# Altium footprint library EDU_High-Speed-Design.PcbLib: 29 footprints (part 2 of 2)
Each footprint in its own frame and in the unit in brackets; x right, y up, seen from the top. Pads: shape width x height; smd on the part's side, far side on the other; paste and mask are expansions set on the pad; w line width, h text height; cw(c..) or ccw(c..) is an arc to the next point about the centre after c.
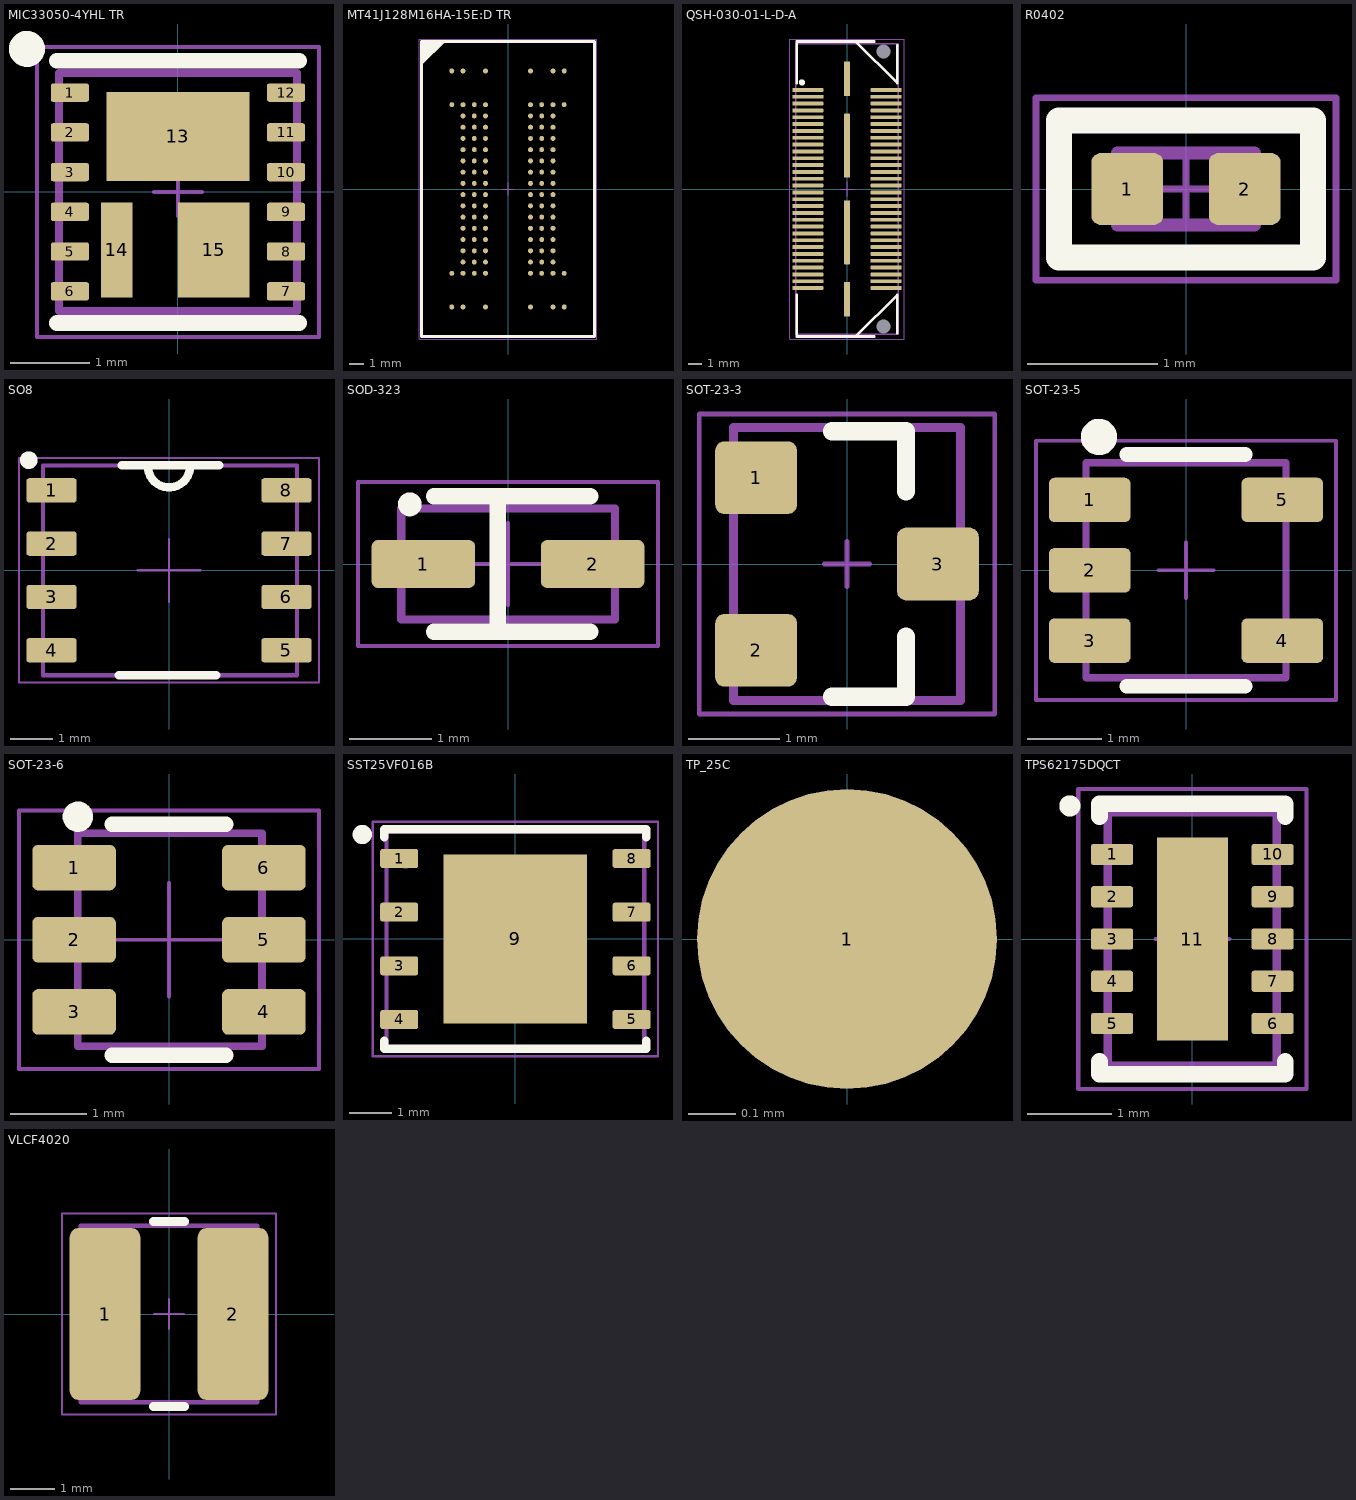
[diagram p1: the footprints below, top view; thin cyan lines are the x and y axes]

## MIC33050-4YHL TR [mm] "12-VFDFN Exposed Pad, 3.00mm L x 3.00mm W"
height 0.85
pads (15):
  rrect25% 0.48x0.23 smd: 1(-1.36,1.25) 2(-1.36,0.75) 3(-1.36,0.25) 4(-1.36,-0.25) 5(-1.36,-0.75) 6(-1.36,-1.25) 7(1.36,-1.25) 8(1.36,-0.75) 9(1.36,-0.25) 10(1.36,0.25) 11(1.36,0.75) 12(1.36,1.25)
  rect 1.8x1.125 smd: 13(0,0.699)
  rect 0.4x1.19 smd: 14(-0.77,-0.73)
  rect 0.9x1.19 smd: 15(0.45,-0.73)
Top Overlay:
  circle w0.254: c-1.9,1.8 r0.1
  lines w0.2: -1.524,-1.651 1.524,-1.651 ; -1.524,1.651 1.524,1.651
Top Solder:
  region: 1.6,-0.6 0.8,-0.6 0.8,-1.4 1.6,-1.4 1.6,-1.1 1.1,-1.1 1.1,-0.9 1.6,-0.9
Mechanical 13:
  lines w0.1: -1.499,-1.499 -1.499,1.499 1.499,1.499 1.499,-1.499 -1.499,-1.499
Mechanical 15:
  lines w0.05: -0.3,0 0.3,0 ; 0,-0.3 0,0.3 ; -1.775,-1.825 1.775,-1.825 1.775,1.825 -1.775,1.825 -1.775,-1.825
3D body "MLF-12_YML_MCH.step": height 0.89, standoff 0, extent -1.499,-1.499 1.499,1.499

## MT41J128M16HA-15E:D TR [mm] "96-FBGA, 9.00mm L x 14.00mm W"
height 1.2
pads (112):
  round 0.35 smd mask+0.05: A1(-3.2,6) A2(-2.4,6) A3(-1.6,6) A7(1.6,6) A8(2.4,6) A9(3.2,6) B1(-3.2,5.2) B2(-2.4,5.2) B3(-1.6,5.2) B7(1.6,5.2) B8(2.4,5.2) B9(3.2,5.2) C1(-3.2,4.4) C2(-2.4,4.4) C3(-1.6,4.4) C7(1.6,4.4) C8(2.4,4.4) C9(3.2,4.4) D1(-3.2,3.6) D2(-2.4,3.6) D3(-1.6,3.6) D7(1.6,3.6) D8(2.4,3.6) D9(3.2,3.6) E1(-3.2,2.8) E2(-2.4,2.8) E3(-1.6,2.8) E7(1.6,2.8) E8(2.4,2.8) E9(3.2,2.8) F1(-3.2,2) F2(-2.4,2) F3(-1.6,2) F7(1.6,2) F8(2.4,2) F9(3.2,2) G1(-3.2,1.2) G2(-2.4,1.2) G3(-1.6,1.2) G7(1.6,1.2) G8(2.4,1.2) G9(3.2,1.2) H1(-3.2,0.4) H2(-2.4,0.4) H3(-1.6,0.4) H7(1.6,0.4) H8(2.4,0.4) H9(3.2,0.4) J1(-3.2,-0.4) J2(-2.4,-0.4) J3(-1.6,-0.4) J7(1.6,-0.4) J8(2.4,-0.4) J9(3.2,-0.4) K1(-3.2,-1.2) K2(-2.4,-1.2) K3(-1.6,-1.2) K7(1.6,-1.2) K8(2.4,-1.2) K9(3.2,-1.2) L1(-3.2,-2) L2(-2.4,-2) L3(-1.6,-2) L7(1.6,-2) L8(2.4,-2) L9(3.2,-2) M1(-3.2,-2.8) M2(-2.4,-2.8) M3(-1.6,-2.8) M7(1.6,-2.8) M8(2.4,-2.8) M9(3.2,-2.8) MECH01(-4,8.4) MECH02(-3.2,8.4) MECH03(-1.6,8.4) MECH04(1.6,8.4) MECH05(3.2,8.4) MECH06(4,8.4) MECH07(-4,6) MECH08(4,6) MECH09(-4,-6) MECH10(4,-6) MECH11(-4,-8.4) MECH12(-3.2,-8.4) MECH13(-1.6,-8.4) MECH14(1.6,-8.4) MECH15(3.2,-8.4) MECH16(4,-8.4) N1(-3.2,-3.6) N2(-2.4,-3.6) N3(-1.6,-3.6) N7(1.6,-3.6) N8(2.4,-3.6) N9(3.2,-3.6) P1(-3.2,-4.4) P2(-2.4,-4.4) P3(-1.6,-4.4) P7(1.6,-4.4) P8(2.4,-4.4) P9(3.2,-4.4) R1(-3.2,-5.2) R2(-2.4,-5.2) R3(-1.6,-5.2) R7(1.6,-5.2) R8(2.4,-5.2) R9(3.2,-5.2) T1(-3.2,-6) T2(-2.4,-6) T3(-1.6,-6) T7(1.6,-6) T8(2.4,-6) T9(3.2,-6)
Top Overlay:
  region: -6.15,10.5 -4.6,10.5 -4.6,10.472 -6.15,8.922
  lines w0.2: -6.15,8.922 -4.572,10.5 ; -6.15,-10.5 6.15,-10.5 6.15,10.5 -6.15,10.5 -6.15,-10.5
Mechanical 13:
  lines w0.1: -6.159,-10.541 -6.159,10.541 6.159,10.541 6.159,-10.541 -6.159,-10.541
Mechanical 15:
  lines w0.05: -0.45,0 0.45,0 ; 0,-0.45 0,0.45 ; -6.325,-10.675 6.325,-10.675 6.325,10.675 -6.325,10.675 -6.325,-10.675
3D body: height 1.2, standoff 0, extent -6.159,-10.541 6.159,10.541

## QSH-030-01-L-D-A [mm] "21.31mm L x 7.49mm W"
height 3.25
pads (66):
  rrect25% 2.27x0.28 smd: 1(-2.87,7.25) 2(2.87,7.25) 3(-2.87,6.75) 4(2.87,6.75) 5(-2.87,6.25) 6(2.87,6.25) 7(-2.87,5.75) 8(2.87,5.75) 9(-2.87,5.25) 10(2.87,5.25) 11(-2.87,4.75) 12(2.87,4.75) 13(-2.87,4.25) 14(2.87,4.25) 15(-2.87,3.75) 16(2.87,3.75) 17(-2.87,3.25) 18(2.87,3.25) 19(-2.87,2.75) 20(2.87,2.75) 21(-2.87,2.25) 22(2.87,2.25) 23(-2.87,1.75) 24(2.87,1.75) 25(-2.87,1.25) 26(2.87,1.25) 27(-2.87,0.75) 28(2.87,0.75) 29(-2.87,0.25) 30(2.87,0.25) 31(-2.87,-0.25) 32(2.87,-0.25) 33(-2.87,-0.75) 34(2.87,-0.75) 35(-2.87,-1.25) 36(2.87,-1.25) 37(-2.87,-1.75) 38(2.87,-1.75) 39(-2.87,-2.25) 40(2.87,-2.25) 41(-2.87,-2.75) 42(2.87,-2.75) 43(-2.87,-3.25) 44(2.87,-3.25) 45(-2.87,-3.75) 46(2.87,-3.75) 47(-2.87,-4.25) 48(2.87,-4.25) 49(-2.87,-4.75) 50(2.87,-4.75) 51(-2.87,-5.25) 52(2.87,-5.25) 53(-2.87,-5.75) 54(2.87,-5.75) 55(-2.87,-6.25) 56(2.87,-6.25) 57(-2.87,-6.75) 58(2.87,-6.75) 59(-2.87,-7.25) 60(2.87,-7.25)
  rrect25% 0.43x2.54 smd: 61(0,8.065) 64(0,-8.065)
  rrect25% 0.43x4.7 smd: 62(0,3.175) 63(0,-3.175)
  round 0 hole 1.05 unplated: 65(2.67,10.065) 66(2.67,-10.065)
Top Overlay:
  circle w0.254: c-3.3,7.8 r0.1
  lines w0.2: -3.683,-7.747 -3.683,-10.8 2,-10.8 ; -3.683,7.747 -3.683,10.8 2,10.8 ; 0,-10.8 0.63,-10.8 3.683,-7.747 3.683,-10.541 ; 0,10.8 0.63,10.8 3.683,7.747 3.683,10.5
Mechanical 13:
  lines w0.1: -3.746,-10.635 -3.746,10.637 3.746,10.637 3.746,-10.635 -3.746,-10.635
Mechanical 15:
  lines w0.05: -0.513,0 0.512,0 ; 0,-0.513 0,0.513 ; -4.175,-10.975 -4.175,10.975 4.175,10.975 4.175,-10.975 -4.175,-10.975
3D body "QSH-030-01-X-D-A.step": height 3.42, standoff -0.58, extent -3.746,-10.635 3.746,10.637

## R0402 [mm] "Chip Resistor, 2-Leads, Body 1.00x0.50mm, IPC Medium Density"
height 0.4
pads (2):
  rrect25% 0.55x0.55 smd: 1(-0.45,0) 2(0.45,0)
Top Overlay:
  lines w0.2: -0.975,-0.525 -0.975,0.525 0.975,0.525 0.975,-0.525 -0.975,-0.525
Mechanical 13:
  lines w0.1: -0.525,-0.275 -0.525,0.275 0.525,0.275 0.525,-0.275 -0.525,-0.275
Mechanical 15:
  lines w0.05: -0.275,0 0.275,0 ; 0,-0.275 0,0.275 ; -1.15,-0.7 -1.15,0.7 1.15,0.7 1.15,-0.7 -1.15,-0.7
3D body "User Library-RES_0402.step": height 0.4, standoff 0, extent -0.525,-0.275 0.525,0.275

## SO8 [mm] "5.00mm L x 6.20mm W"
height 1.75
pads (8):
  rrect25% 1.2x0.58 smd: 1(-2.8,1.905) 2(-2.8,0.635) 3(-2.8,-0.635) 4(-2.8,-1.905) 5(2.8,-1.905) 6(2.8,-0.635) 7(2.8,0.635) 8(2.8,1.905)
Top Overlay:
  circle w0.22: c-3.342,2.625 r0.1
  lines w0.2: -1.2,-2.5 1.125,-2.5 ; -1.125,2.5 1.2,2.5 ; -0.5,2.475 ccw(c0,2.475) 0.5,2.475
Mechanical 13:
  lines w0.1: -3,-2.5 -3,2.5 3.05,2.5 3.05,-2.5 -3,-2.5
Mechanical 15:
  lines w0.05: -0.75,0 0.75,0 ; 0,-0.75 0,0.75 ; -3.575,-2.675 3.575,-2.675 3.575,2.675 -3.575,2.675 -3.575,-2.675
3D body "SOIC-8.STEP": height 1.7, standoff 0, extent -3,-2.54 3,2.54

## SOD-323 [mm] "SC-76, SOD-323, 2.70mm L x 1.35mm W"
height 1.15
pads (2):
  rrect25% 1.26x0.58 smd: 1(-1.03,0) 2(1.03,0)
Top Overlay:
  lines w0.15: -1.125,0.725 cw(c-1.195,0.725) -1.125,0.732
  lines w0.2: -0.9,-0.825 1,-0.825 ; -0.9,0.825 1,0.825 ; -0.125,-0.8 -0.125,0.825
Mechanical 13:
  lines w0.1: -1.3,-0.675 -1.3,0.675 1.3,0.675 1.3,-0.675 -1.3,-0.675
Mechanical 15:
  lines w0.05: -0.5,0 0.5,0 ; 0,-0.5 0,0.5 ; -1.825,-1 -1.825,1 1.825,1 1.825,-1 -1.825,-1
3D body "User Library-SOD323-1.step": height 1.1, standoff 0, extent -1.3,-0.675 1.3,0.675

## SOT-23-3 [mm] "SOT23, 3-Leads, Body 2.92x1.3mm, Pitch 0.95mm"
height 1.11
pads (3):
  rrect25% 0.9x0.8 smd: 1(-1,0.95) 2(-1,-0.95) 3(1,0)
Top Overlay:
  lines w0.2: -0.165,-1.46 0.65,-1.46 0.65,-0.8 ; -0.165,1.46 0.65,1.46 0.65,0.8
Mechanical 13:
  lines w0.1: -1.25,-1.5 -1.25,1.5 1.25,1.5 1.25,-1.5 -1.25,-1.5
Mechanical 15:
  lines w0.05: -0.25,0 0.25,0 ; 0,-0.25 0,0.25 ; -1.625,-1.65 -1.625,1.65 1.625,1.65 1.625,-1.65 -1.625,-1.65
3D body "User Library-SOT-23-3.STEP": height 0.99, standoff -0.02, extent -1.25,-1.5 1.25,1.5

## SOT-23-5 [mm] "DBV package, 5-Leads, 2.8mm x 2.9mm"
height 1.1
pads (5):
  rrect25% 1.1x0.6 smd: 1(-1.3,0.95) 2(-1.3,0) 3(-1.3,-0.95) 4(1.3,-0.95) 5(1.3,0.95)
Top Overlay:
  circle w0.25: c-1.175,1.8 r0.12
  lines w0.2: -0.8,-1.565 0.8,-1.565 ; -0.8,1.565 0.8,1.565
Mechanical 13:
  lines w0.1: -1.35,-1.45 1.35,-1.45 1.35,1.45 -1.35,1.45 -1.35,-1.45
Mechanical 15:
  lines w0.05: -0.375,0 0.375,0 ; 0,-0.375 0,0.375 ; -2.025,-1.75 2.025,-1.75 2.025,1.75 -2.025,1.75 -2.025,-1.75
3D body "step_temp.STEP": height 1.25, standoff 0, extent -1.35,-1.45 1.35,1.45

## SOT-23-6 [mm] "2.9mm L x 2.8mm W"
height 1.45
pads (6):
  rrect25% 1.1x0.6 smd: 1(-1.25,0.95) 2(-1.25,0) 3(-1.25,-0.95) 4(1.25,-0.95) 5(1.25,0) 6(1.25,0.95)
Top Overlay:
  circle w0.2: c-1.2,1.62 r0.1
  lines w0.2: -0.75,-1.52 0.75,-1.52 ; -0.75,1.52 0.75,1.52
Mechanical 13:
  lines w0.1: -1.2,-1.4 1.225,-1.4 1.225,1.4 -1.2,1.4 -1.2,-1.4
Mechanical 15:
  lines w0.05: -0.75,0 0.75,0 ; 0,-0.75 0,0.75 ; -1.975,-1.7 1.975,-1.7 1.975,1.7 -1.975,1.7 -1.975,-1.7
3D body "SW3dPS-SOT-23-6.STEP": height 1.09, standoff 0, extent -1.201,-1.397 1.225,1.397

## SST25VF016B [mm] "8-WSON, 6.00mm L x 5.00mm W"
height 0.8
pads (9):
  rrect25% 0.9x0.45 smd: 1(-2.75,1.905) 2(-2.75,0.635) 3(-2.75,-0.635) 4(-2.75,-1.905) 5(2.75,-1.905) 6(2.75,-0.635) 7(2.75,0.635) 8(2.75,1.905)
  rect 3.4x4 smd: 9(0,0)
Top Overlay:
  circle w0.254: c-3.625,2.473 r0.1
  lines w0.2: -3.1,-2.413 -3.1,-2.6 3.1,-2.6 3.1,-2.413 ; -3.1,2.413 -3.1,2.6 3.1,2.6 3.1,2.413
Mechanical 13:
  lines w0.1: -3.048,-2.553 -3.048,2.553 3.048,2.553 3.048,-2.553 -3.048,-2.553
Mechanical 15:
  lines w0.05: -0.375,0 0.375,0 ; 0,-0.375 0,0.375 ; -3.375,-2.775 3.375,-2.775 3.375,2.775 -3.375,2.775 -3.375,-2.775
Mechanical 29:
  circle w0.254: c-2.6,1.9 r0.1
3D body "WSON_VZPIQTR_WIN.step": height 0.81, standoff 0, extent -3.048,-2.553 3.048,2.553

## TP_25C [mm]
pads (1):
  round 0.635 smd paste-0.635 mask+0.051: 1(0,0)

## TPS62175DQCT [mm] "10-WSON, 3.00mm L x 2.00mm W"
height 0.8
pads (11):
  rrect25% 0.5x0.25 smd mask+0.07: 1(-0.95,1) 2(-0.95,0.5) 3(-0.95,0) 4(-0.95,-0.5) 5(-0.95,-1) 6(0.95,-1) 7(0.95,-0.5) 8(0.95,0) 9(0.95,0.5) 10(0.95,1)
  rect 0.84x2.4 smd mask+0.07: 11(0,0)
Top Overlay:
  circle w0.15: c-1.45,1.575 r0.05
  lines w0.2: -1.1,-1.45 -1.1,-1.6 1.1,-1.6 1.1,-1.45 ; -1.1,1.45 -1.1,1.6 1.1,1.6 1.1,1.45
Mechanical 13:
  lines w0.1: -1,-1.5 -1,1.5 1,1.5 1,-1.5 -1,-1.5
Mechanical 15:
  lines w0.05: -0.437,0 0.437,0 ; 0,-0.437 0,0.437 ; -1.35,-1.775 1.35,-1.775 1.35,1.775 -1.35,1.775 -1.35,-1.775
3D body "TPS62175DQCT.step": height 0.8, standoff 0, extent -1,-1.5 1,1.5

## VLCF4020 [mm] "4.00mm L x 4.00mm W"
height 2
pads (2):
  rrect25% 1.6x3.9 smd: 1(-1.45,0) 2(1.45,0)
Top Overlay:
  lines w0.2: -0.35,-2.1 0.35,-2.1 ; -0.35,2.1 0.35,2.1
Mechanical 13:
  lines w0.1: -2,-2 2,-2 2,2 -2,2 -2,-2
Mechanical 15:
  lines w0.05: -0.337,0 0.337,0 ; 0,-0.337 0,0.337 ; -2.425,-2.275 2.425,-2.275 2.425,2.275 -2.425,2.275 -2.425,-2.275
Mechanical 29:
  circle w0.254: c-1.55,1.55 r0.1
3D body "VLCF4020T-100MR85.step": height 2, standoff 0, extent -2,-2 2,2